# Altium schematic symbol library Encoders.SchLib: 1 symbol
Pins are listed as number, name and electrical type; pins without a type are passive.

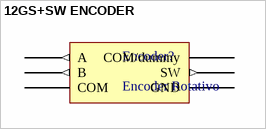
[diagram p0: symbol 12GS+SW ENCODER]

## 12GS+SW ENCODER
designator Encoder?, comment Encoder Rotativo
12GS+SW ENCODER; Descripción: Encoder Rotativo de 20 Posiciones con Pulsador; Fabricante: Matsushita Electronic Components (M) Sdn. Bhd.; Autor: ROUX, Federico G.; Mail: rouxfederico@gmail.com; TYPE NO.: EVE JBB F20 20B; Nombre: 12GS+SW ENCODER
footprint 12GS+SW ENCODER (Encoder Rotativo)
pins: 0 A (out), 1 B (out), 2 COM (power), 3 COM/dummy (power), 4 SW (out), 5 GND (power)